# Altium schematic symbol library kmilo17pet-LT_ChargePump.SchLib: 599 symbols (part 27 of 29)
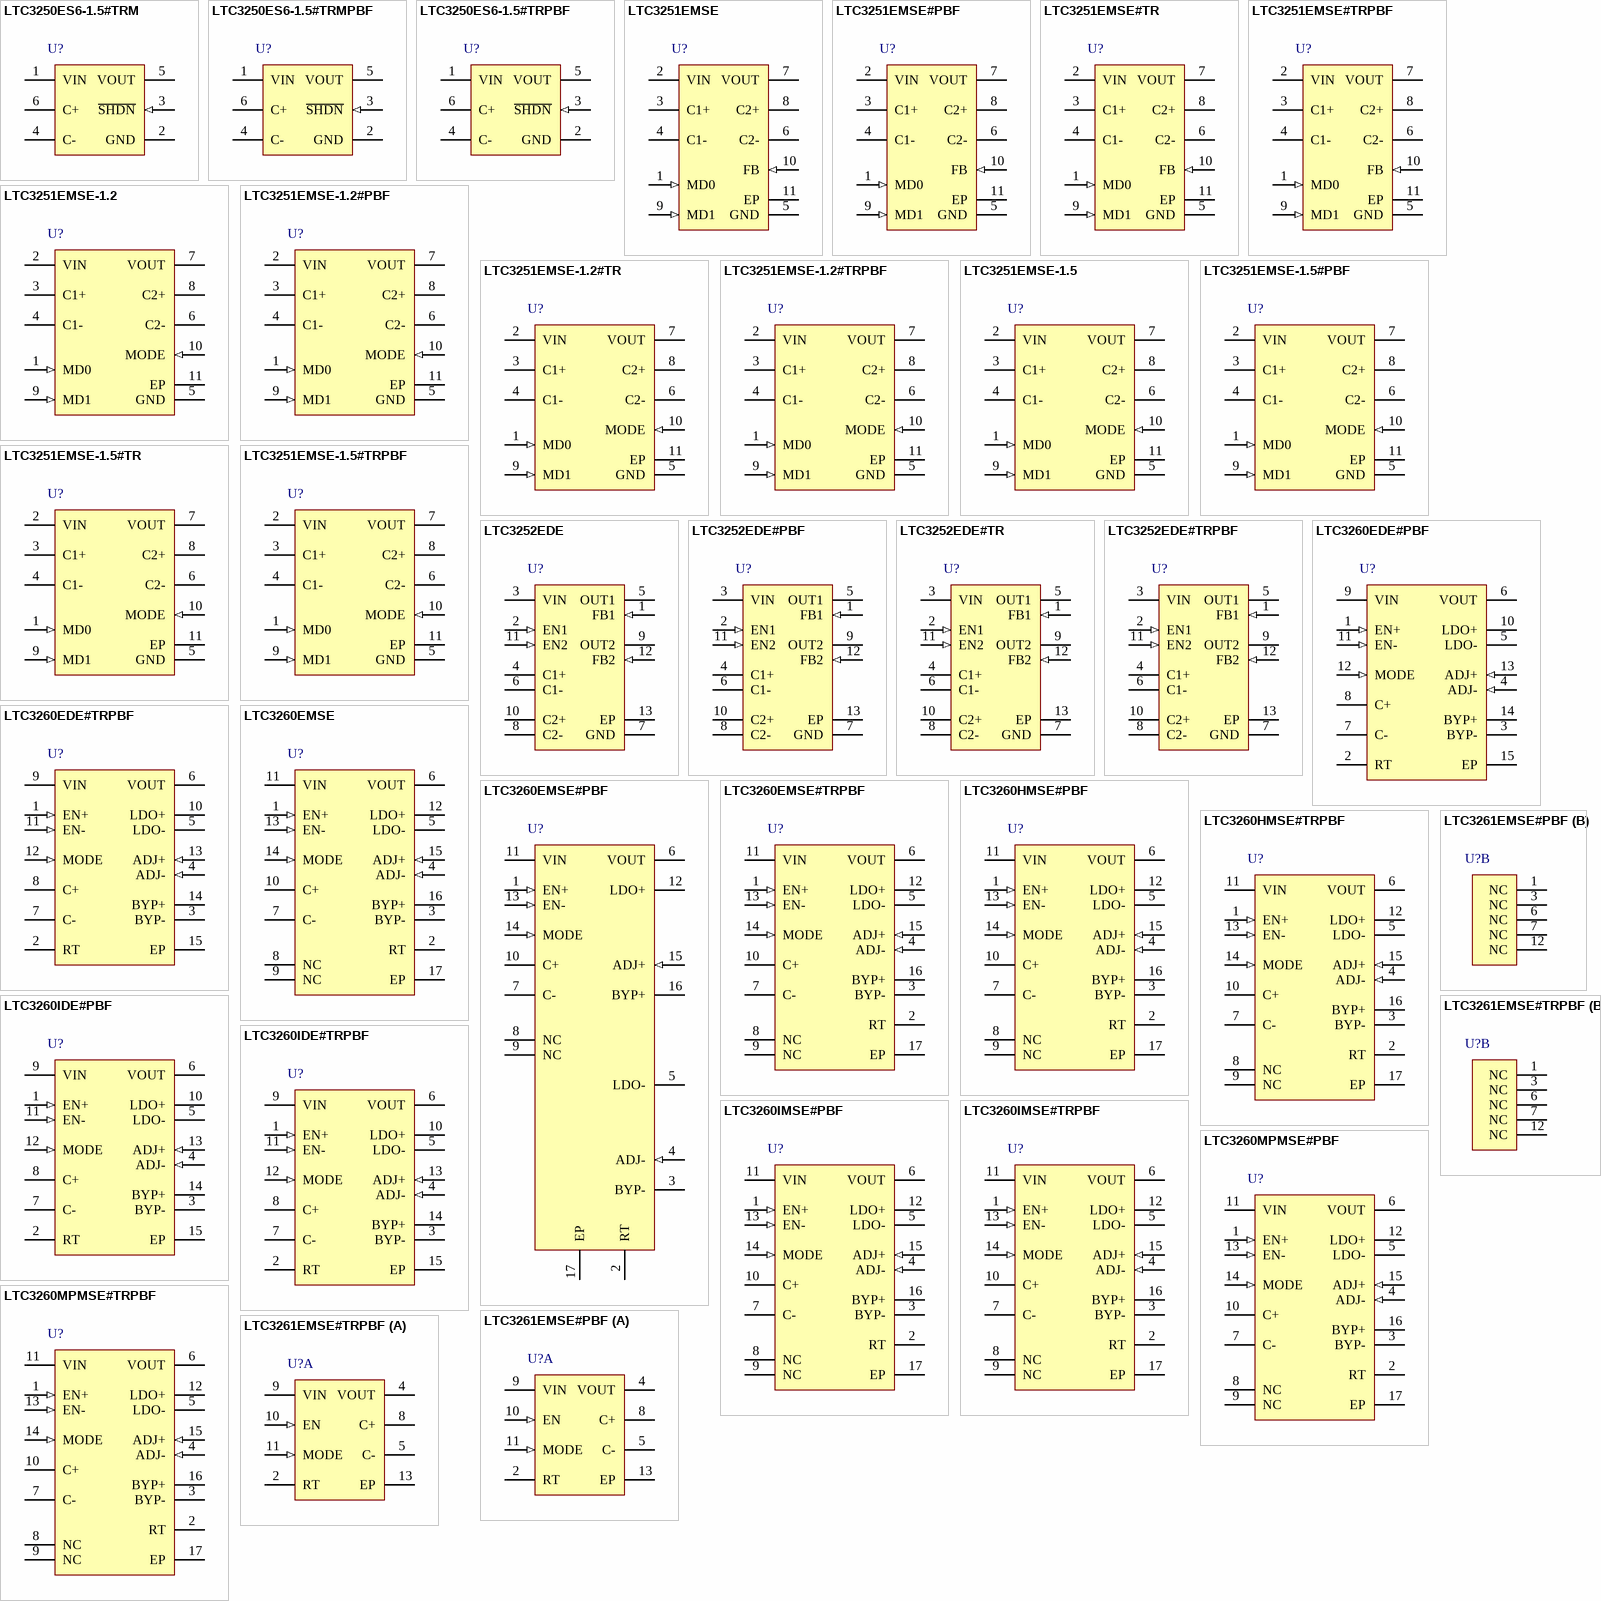
[diagram p42: symbols LTC3250ES6-1.5#TRM to LTC3261EMSE#TRPBF]

## LTC3251EMSE-1.2
designator U?
500 mA High Efficiency, Low Noise, Inductorless Step-Down DC/DC Converter, 2.7 to 5.5 V Vin, 1.2 V Vout, 10-pin SOP (MSE-10-EDP), -40 to 85 degC; Manufacturer: Linear Technology; PartNumber: LTC3251EMSE-1.2; Frequency(kHz): 1600; Ishutdown(uA): 0.01; Vin Max(V): 5.5; Vin Min(V): 2.7; Voutput: 1.2V; DatasheetVersion: Rev. B; PackageVersion: Rev. C, 08/2009; PackageReference: MSE-10; PackageDescription: 10-Pin Plastic MSOP, Exposed Die Pad, Body 3 x 3 mm, Pitch 0.5 mm; Supplier 1: Digi-Key; Supplier Part Number 1: LTC3251EMSE-1.2-ND; Isupply(mA): 0.01; RoHS: FALSE; Mounting Technology: Surface Mount; ComponentLink1Description: Manufacturer URL; ComponentLink1URL: http://www.linear.com/; ComponentLink2Description: Datasheet; ComponentLink2URL: http://cds.linear.com/docs/en/datasheet/32511215fb.pdf; ComponentLink3Description: Package Specification; ComponentLink3URL: http://cds.linear.com/docs/en/datasheet/3481fc.pdf
footprint LT-MSE-10-EDP-2060x1830TP_N (SOP, 10-Leads, Body 3.1x3.1mm, Pitch 0.5mm, Thermal Pad 2.17x1.94mm, IPC Medium Density)
footprint LT-MSE-10-EDP-2060x1830TP_L (SOP, 10-Leads, Body 3.1x3.1mm, Pitch 0.5mm, Thermal Pad 2.17x1.94mm, IPC High Density)
footprint LT-MSE-10-EDP-2060x1830TP_M (SOP, 10-Leads, Body 3.1x3.1mm, Pitch 0.5mm, Thermal Pad 2.17x1.94mm, IPC Low Density)
pins: 1 MD0 (in) "Switching Mode Input Pins. The Mode input pins are used to set the operating mode of the LTC3251-1.2/LTC3251-1.5.", 2 VIN (power) "Input Supply Voltage. Operating VIN may be between 2.7V and 5.5V. Bypass VIN with a >=1uF low ESR ceramic capacitor to GND (COUT).", 3 C1+ "Flying Capacitor 1 Positive Terminal (C1).", 4 C1- "Flying Capacitor 1 Negative Terminal (C1).", 5 GND (power) "Ground. Connect to a ground plane for best performance.", 6 C2- "Flying Capacitor 2 Negative Terminal (C2).", 7 VOUT (power) "Regulated Output Voltage. VOUT is disconnected from VIN during shutdown. Bypass VOUT with a low ESR ceramic capacitor to GND (CIN). See VOUT Capacitor Selection for capacitor size requirements.", 8 C2+ "Flying Capacitor 2 Positive Terminal (C2).", 9 MD1 (in) "Switching Mode Input Pins. The Mode input pins are used to set the operating mode of the LTC3251-1.2/LTC3251-1.5.", 10 MODE (in) "Spread Spectrum Operation Mode Pin. A low voltage on MODE enables spread spectrum operation. When MODE is high spread spectrum operation is disabled and switching occurs at the maximum operating frequency.", 11 EP (power)

## LTC3251EMSE-1.2#PBF
designator U?
500 mA High Efficiency, Low Noise, Inductorless Step-Down DC/DC Converter, 2.7 to 5.5 V Vin, 1.2 V Vout, 10-pin SOP (MSE-10-EDP), -40 to 85 degC, Pb-Free; Manufacturer: Linear Technology; PartNumber: LTC3251EMSE-1.2#PBF; Frequency(kHz): 1600; Ishutdown(uA): 0.01; Vin Max(V): 5.5; Vin Min(V): 2.7; Voutput: 1.2V; DatasheetVersion: Rev. B; PackageVersion: Rev. C, 08/2009; PackageReference: MSE-10; PackageDescription: 10-Pin Plastic MSOP, Exposed Die Pad, Body 3 x 3 mm, Pitch 0.5 mm; Supplier 1: Digi-Key; Supplier Part Number 1: LTC3251EMSE-1.2#PBF-ND; Supplier 2: Newark; Supplier Part Number 2: 56M7468; Isupply(mA): 0.01; RoHS: TRUE; Mounting Technology: Surface Mount; ComponentLink1Description: Manufacturer URL; ComponentLink1URL: http://www.linear.com/; ComponentLink2Description: Datasheet; ComponentLink2URL: http://cds.linear.com/docs/en/datasheet/32511215fb.pdf; ComponentLink3Description: Package Specification; ComponentLink3URL: http://cds.linear.com/docs/en/datasheet/3481fc.pdf
footprint LT-MSE-10-EDP-2060x1830TP_N (SOP, 10-Leads, Body 3.1x3.1mm, Pitch 0.5mm, Thermal Pad 2.17x1.94mm, IPC Medium Density)
footprint LT-MSE-10-EDP-2060x1830TP_L (SOP, 10-Leads, Body 3.1x3.1mm, Pitch 0.5mm, Thermal Pad 2.17x1.94mm, IPC High Density)
footprint LT-MSE-10-EDP-2060x1830TP_M (SOP, 10-Leads, Body 3.1x3.1mm, Pitch 0.5mm, Thermal Pad 2.17x1.94mm, IPC Low Density)
pins: 1 MD0 (in) "Switching Mode Input Pins. The Mode input pins are used to set the operating mode of the LTC3251-1.2/LTC3251-1.5.", 2 VIN (power) "Input Supply Voltage. Operating VIN may be between 2.7V and 5.5V. Bypass VIN with a >=1uF low ESR ceramic capacitor to GND (COUT).", 3 C1+ "Flying Capacitor 1 Positive Terminal (C1).", 4 C1- "Flying Capacitor 1 Negative Terminal (C1).", 5 GND (power) "Ground. Connect to a ground plane for best performance.", 6 C2- "Flying Capacitor 2 Negative Terminal (C2).", 7 VOUT (power) "Regulated Output Voltage. VOUT is disconnected from VIN during shutdown. Bypass VOUT with a low ESR ceramic capacitor to GND (CIN). See VOUT Capacitor Selection for capacitor size requirements.", 8 C2+ "Flying Capacitor 2 Positive Terminal (C2).", 9 MD1 (in) "Switching Mode Input Pins. The Mode input pins are used to set the operating mode of the LTC3251-1.2/LTC3251-1.5.", 10 MODE (in) "Spread Spectrum Operation Mode Pin. A low voltage on MODE enables spread spectrum operation. When MODE is high spread spectrum operation is disabled and switching occurs at the maximum operating frequency.", 11 EP (power)

## LTC3251EMSE-1.2#TR
designator U?
500 mA High Efficiency, Low Noise, Inductorless Step-Down DC/DC Converter, 2.7 to 5.5 V Vin, 1.2 V Vout, 10-pin SOP (MSE-10-EDP), -40 to 85 degC, Tape and Reel; Manufacturer: Linear Technology; PartNumber: LTC3251EMSE-1.2#TR; Frequency(kHz): 1600; Ishutdown(uA): 0.01; Vin Max(V): 5.5; Vin Min(V): 2.7; Voutput: 1.2V; DatasheetVersion: Rev. B; PackageVersion: Rev. C, 08/2009; PackageReference: MSE-10; PackageDescription: 10-Pin Plastic MSOP, Exposed Die Pad, Body 3 x 3 mm, Pitch 0.5 mm; Supplier 1: Digi-Key; Supplier Part Number 1: LTC3251EMSE-1.2TR-ND; Supplier 2: Newark; Supplier Part Number 2: 56M7469; Isupply(mA): 0.01; Packing: Tape and Reel; RoHS: FALSE; Mounting Technology: Surface Mount; ComponentLink1Description: Manufacturer URL; ComponentLink1URL: http://www.linear.com/; ComponentLink2Description: Datasheet; ComponentLink2URL: http://cds.linear.com/docs/en/datasheet/32511215fb.pdf; ComponentLink3Description: Package Specification; ComponentLink3URL: http://cds.linear.com/docs/en/datasheet/3481fc.pdf
footprint LT-MSE-10-EDP-2060x1830TP_N (SOP, 10-Leads, Body 3.1x3.1mm, Pitch 0.5mm, Thermal Pad 2.17x1.94mm, IPC Medium Density)
footprint LT-MSE-10-EDP-2060x1830TP_L (SOP, 10-Leads, Body 3.1x3.1mm, Pitch 0.5mm, Thermal Pad 2.17x1.94mm, IPC High Density)
footprint LT-MSE-10-EDP-2060x1830TP_M (SOP, 10-Leads, Body 3.1x3.1mm, Pitch 0.5mm, Thermal Pad 2.17x1.94mm, IPC Low Density)
pins: 1 MD0 (in) "Switching Mode Input Pins. The Mode input pins are used to set the operating mode of the LTC3251-1.2/LTC3251-1.5.", 2 VIN (power) "Input Supply Voltage. Operating VIN may be between 2.7V and 5.5V. Bypass VIN with a >=1uF low ESR ceramic capacitor to GND (COUT).", 3 C1+ "Flying Capacitor 1 Positive Terminal (C1).", 4 C1- "Flying Capacitor 1 Negative Terminal (C1).", 5 GND (power) "Ground. Connect to a ground plane for best performance.", 6 C2- "Flying Capacitor 2 Negative Terminal (C2).", 7 VOUT (power) "Regulated Output Voltage. VOUT is disconnected from VIN during shutdown. Bypass VOUT with a low ESR ceramic capacitor to GND (CIN). See VOUT Capacitor Selection for capacitor size requirements.", 8 C2+ "Flying Capacitor 2 Positive Terminal (C2).", 9 MD1 (in) "Switching Mode Input Pins. The Mode input pins are used to set the operating mode of the LTC3251-1.2/LTC3251-1.5.", 10 MODE (in) "Spread Spectrum Operation Mode Pin. A low voltage on MODE enables spread spectrum operation. When MODE is high spread spectrum operation is disabled and switching occurs at the maximum operating frequency.", 11 EP (power)

## LTC3251EMSE-1.2#TRPBF
designator U?
500 mA High Efficiency, Low Noise, Inductorless Step-Down DC/DC Converter, 2.7 to 5.5 V Vin, 1.2 V Vout, 10-pin SOP (MSE-10-EDP), -40 to 85 degC, Pb-Free, Tape and Reel; Manufacturer: Linear Technology; PartNumber: LTC3251EMSE-1.2#TRPBF; Frequency(kHz): 1600; Ishutdown(uA): 0.01; Vin Max(V): 5.5; Vin Min(V): 2.7; Voutput: 1.2V; DatasheetVersion: Rev. B; PackageVersion: Rev. C, 08/2009; PackageReference: MSE-10; PackageDescription: 10-Pin Plastic MSOP, Exposed Die Pad, Body 3 x 3 mm, Pitch 0.5 mm; Supplier 1: Digi-Key; Supplier Part Number 1: LTC3251EMSE-1.2#TRPBF-ND; Isupply(mA): 0.01; Packing: Tape and Reel; RoHS: TRUE; Mounting Technology: Surface Mount; ComponentLink1Description: Manufacturer URL; ComponentLink1URL: http://www.linear.com/; ComponentLink2Description: Datasheet; ComponentLink2URL: http://cds.linear.com/docs/en/datasheet/32511215fb.pdf; ComponentLink3Description: Package Specification; ComponentLink3URL: http://cds.linear.com/docs/en/datasheet/3481fc.pdf
footprint LT-MSE-10-EDP-2060x1830TP_N (SOP, 10-Leads, Body 3.1x3.1mm, Pitch 0.5mm, Thermal Pad 2.17x1.94mm, IPC Medium Density)
footprint LT-MSE-10-EDP-2060x1830TP_L (SOP, 10-Leads, Body 3.1x3.1mm, Pitch 0.5mm, Thermal Pad 2.17x1.94mm, IPC High Density)
footprint LT-MSE-10-EDP-2060x1830TP_M (SOP, 10-Leads, Body 3.1x3.1mm, Pitch 0.5mm, Thermal Pad 2.17x1.94mm, IPC Low Density)
pins: 1 MD0 (in) "Switching Mode Input Pins. The Mode input pins are used to set the operating mode of the LTC3251-1.2/LTC3251-1.5.", 2 VIN (power) "Input Supply Voltage. Operating VIN may be between 2.7V and 5.5V. Bypass VIN with a >=1uF low ESR ceramic capacitor to GND (COUT).", 3 C1+ "Flying Capacitor 1 Positive Terminal (C1).", 4 C1- "Flying Capacitor 1 Negative Terminal (C1).", 5 GND (power) "Ground. Connect to a ground plane for best performance.", 6 C2- "Flying Capacitor 2 Negative Terminal (C2).", 7 VOUT (power) "Regulated Output Voltage. VOUT is disconnected from VIN during shutdown. Bypass VOUT with a low ESR ceramic capacitor to GND (CIN). See VOUT Capacitor Selection for capacitor size requirements.", 8 C2+ "Flying Capacitor 2 Positive Terminal (C2).", 9 MD1 (in) "Switching Mode Input Pins. The Mode input pins are used to set the operating mode of the LTC3251-1.2/LTC3251-1.5.", 10 MODE (in) "Spread Spectrum Operation Mode Pin. A low voltage on MODE enables spread spectrum operation. When MODE is high spread spectrum operation is disabled and switching occurs at the maximum operating frequency.", 11 EP (power)

## LTC3251EMSE-1.5
designator U?
500 mA High Efficiency, Low Noise, Inductorless Step-Down DC/DC Converter, 2.7 to 5.5 V Vin, 1.5 V Vout, 10-pin SOP (MSE-10-EDP), -40 to 85 degC; Manufacturer: Linear Technology; PartNumber: LTC3251EMSE-1.5; Frequency(kHz): 1600; Ishutdown(uA): 0.01; Vin Max(V): 5.5; Vin Min(V): 2.7; Voutput: 1.5V; DatasheetVersion: Rev. B; PackageVersion: Rev. C, 08/2009; PackageReference: MSE-10; PackageDescription: 10-Pin Plastic MSOP, Exposed Die Pad, Body 3 x 3 mm, Pitch 0.5 mm; Supplier 1: Digi-Key; Supplier Part Number 1: LTC3251EMSE-1.5-ND; Isupply(mA): 0.01; RoHS: FALSE; Mounting Technology: Surface Mount; ComponentLink1Description: Manufacturer URL; ComponentLink1URL: http://www.linear.com/; ComponentLink2Description: Datasheet; ComponentLink2URL: http://cds.linear.com/docs/en/datasheet/32511215fb.pdf; ComponentLink3Description: Package Specification; ComponentLink3URL: http://cds.linear.com/docs/en/datasheet/3481fc.pdf
footprint LT-MSE-10-EDP-2060x1830TP_N (SOP, 10-Leads, Body 3.1x3.1mm, Pitch 0.5mm, Thermal Pad 2.17x1.94mm, IPC Medium Density)
footprint LT-MSE-10-EDP-2060x1830TP_L (SOP, 10-Leads, Body 3.1x3.1mm, Pitch 0.5mm, Thermal Pad 2.17x1.94mm, IPC High Density)
footprint LT-MSE-10-EDP-2060x1830TP_M (SOP, 10-Leads, Body 3.1x3.1mm, Pitch 0.5mm, Thermal Pad 2.17x1.94mm, IPC Low Density)
pins: 1 MD0 (in) "Switching Mode Input Pins. The Mode input pins are used to set the operating mode of the LTC3251-1.2/LTC3251-1.5.", 2 VIN (power) "Input Supply Voltage. Operating VIN may be between 2.7V and 5.5V. Bypass VIN with a >=1uF low ESR ceramic capacitor to GND (COUT).", 3 C1+ "Flying Capacitor 1 Positive Terminal (C1).", 4 C1- "Flying Capacitor 1 Negative Terminal (C1).", 5 GND (power) "Ground. Connect to a ground plane for best performance.", 6 C2- "Flying Capacitor 2 Negative Terminal (C2).", 7 VOUT (power) "Regulated Output Voltage. VOUT is disconnected from VIN during shutdown. Bypass VOUT with a low ESR ceramic capacitor to GND (CIN). See VOUT Capacitor Selection for capacitor size requirements.", 8 C2+ "Flying Capacitor 2 Positive Terminal (C2).", 9 MD1 (in) "Switching Mode Input Pins. The Mode input pins are used to set the operating mode of the LTC3251-1.2/LTC3251-1.5.", 10 MODE (in) "Spread Spectrum Operation Mode Pin. A low voltage on MODE enables spread spectrum operation. When MODE is high spread spectrum operation is disabled and switching occurs at the maximum operating frequency.", 11 EP (power)

## LTC3251EMSE-1.5#PBF
designator U?
500 mA High Efficiency, Low Noise, Inductorless Step-Down DC/DC Converter, 2.7 to 5.5 V Vin, 1.5 V Vout, 10-pin SOP (MSE-10-EDP), -40 to 85 degC, Pb-Free; Manufacturer: Linear Technology; PartNumber: LTC3251EMSE-1.5#PBF; Frequency(kHz): 1600; Ishutdown(uA): 0.01; Vin Max(V): 5.5; Vin Min(V): 2.7; Voutput: 1.5V; DatasheetVersion: Rev. B; PackageVersion: Rev. C, 08/2009; PackageReference: MSE-10; PackageDescription: 10-Pin Plastic MSOP, Exposed Die Pad, Body 3 x 3 mm, Pitch 0.5 mm; Supplier 1: Digi-Key; Supplier Part Number 1: LTC3251EMSE-1.5#PBF-ND; Supplier 2: Newark; Supplier Part Number 2: 56M7472; Isupply(mA): 0.01; RoHS: TRUE; Mounting Technology: Surface Mount; ComponentLink1Description: Manufacturer URL; ComponentLink1URL: http://www.linear.com/; ComponentLink2Description: Datasheet; ComponentLink2URL: http://cds.linear.com/docs/en/datasheet/32511215fb.pdf; ComponentLink3Description: Package Specification; ComponentLink3URL: http://cds.linear.com/docs/en/datasheet/3481fc.pdf
footprint LT-MSE-10-EDP-2060x1830TP_N (SOP, 10-Leads, Body 3.1x3.1mm, Pitch 0.5mm, Thermal Pad 2.17x1.94mm, IPC Medium Density)
footprint LT-MSE-10-EDP-2060x1830TP_L (SOP, 10-Leads, Body 3.1x3.1mm, Pitch 0.5mm, Thermal Pad 2.17x1.94mm, IPC High Density)
footprint LT-MSE-10-EDP-2060x1830TP_M (SOP, 10-Leads, Body 3.1x3.1mm, Pitch 0.5mm, Thermal Pad 2.17x1.94mm, IPC Low Density)
pins: 1 MD0 (in) "Switching Mode Input Pins. The Mode input pins are used to set the operating mode of the LTC3251-1.2/LTC3251-1.5.", 2 VIN (power) "Input Supply Voltage. Operating VIN may be between 2.7V and 5.5V. Bypass VIN with a >=1uF low ESR ceramic capacitor to GND (COUT).", 3 C1+ "Flying Capacitor 1 Positive Terminal (C1).", 4 C1- "Flying Capacitor 1 Negative Terminal (C1).", 5 GND (power) "Ground. Connect to a ground plane for best performance.", 6 C2- "Flying Capacitor 2 Negative Terminal (C2).", 7 VOUT (power) "Regulated Output Voltage. VOUT is disconnected from VIN during shutdown. Bypass VOUT with a low ESR ceramic capacitor to GND (CIN). See VOUT Capacitor Selection for capacitor size requirements.", 8 C2+ "Flying Capacitor 2 Positive Terminal (C2).", 9 MD1 (in) "Switching Mode Input Pins. The Mode input pins are used to set the operating mode of the LTC3251-1.2/LTC3251-1.5.", 10 MODE (in) "Spread Spectrum Operation Mode Pin. A low voltage on MODE enables spread spectrum operation. When MODE is high spread spectrum operation is disabled and switching occurs at the maximum operating frequency.", 11 EP (power)

## LTC3251EMSE-1.5#TR
designator U?
500 mA High Efficiency, Low Noise, Inductorless Step-Down DC/DC Converter, 2.7 to 5.5 V Vin, 1.5 V Vout, 10-pin SOP (MSE-10-EDP), -40 to 85 degC, Tape and Reel; Manufacturer: Linear Technology; PartNumber: LTC3251EMSE-1.5#TR; Frequency(kHz): 1600; Ishutdown(uA): 0.01; Vin Max(V): 5.5; Vin Min(V): 2.7; Voutput: 1.5V; DatasheetVersion: Rev. B; PackageVersion: Rev. C, 08/2009; PackageReference: MSE-10; PackageDescription: 10-Pin Plastic MSOP, Exposed Die Pad, Body 3 x 3 mm, Pitch 0.5 mm; Supplier 1: Digi-Key; Supplier Part Number 1: LTC3251EMSE-1.5TR-ND; Isupply(mA): 0.01; Packing: Tape and Reel; RoHS: FALSE; Mounting Technology: Surface Mount; ComponentLink1Description: Manufacturer URL; ComponentLink1URL: http://www.linear.com/; ComponentLink2Description: Datasheet; ComponentLink2URL: http://cds.linear.com/docs/en/datasheet/32511215fb.pdf; ComponentLink3Description: Package Specification; ComponentLink3URL: http://cds.linear.com/docs/en/datasheet/3481fc.pdf
footprint LT-MSE-10-EDP-2060x1830TP_N (SOP, 10-Leads, Body 3.1x3.1mm, Pitch 0.5mm, Thermal Pad 2.17x1.94mm, IPC Medium Density)
footprint LT-MSE-10-EDP-2060x1830TP_L (SOP, 10-Leads, Body 3.1x3.1mm, Pitch 0.5mm, Thermal Pad 2.17x1.94mm, IPC High Density)
footprint LT-MSE-10-EDP-2060x1830TP_M (SOP, 10-Leads, Body 3.1x3.1mm, Pitch 0.5mm, Thermal Pad 2.17x1.94mm, IPC Low Density)
pins: 1 MD0 (in) "Switching Mode Input Pins. The Mode input pins are used to set the operating mode of the LTC3251-1.2/LTC3251-1.5.", 2 VIN (power) "Input Supply Voltage. Operating VIN may be between 2.7V and 5.5V. Bypass VIN with a >=1uF low ESR ceramic capacitor to GND (COUT).", 3 C1+ "Flying Capacitor 1 Positive Terminal (C1).", 4 C1- "Flying Capacitor 1 Negative Terminal (C1).", 5 GND (power) "Ground. Connect to a ground plane for best performance.", 6 C2- "Flying Capacitor 2 Negative Terminal (C2).", 7 VOUT (power) "Regulated Output Voltage. VOUT is disconnected from VIN during shutdown. Bypass VOUT with a low ESR ceramic capacitor to GND (CIN). See VOUT Capacitor Selection for capacitor size requirements.", 8 C2+ "Flying Capacitor 2 Positive Terminal (C2).", 9 MD1 (in) "Switching Mode Input Pins. The Mode input pins are used to set the operating mode of the LTC3251-1.2/LTC3251-1.5.", 10 MODE (in) "Spread Spectrum Operation Mode Pin. A low voltage on MODE enables spread spectrum operation. When MODE is high spread spectrum operation is disabled and switching occurs at the maximum operating frequency.", 11 EP (power)

## LTC3251EMSE-1.5#TRPBF
designator U?
500 mA High Efficiency, Low Noise, Inductorless Step-Down DC/DC Converter, 2.7 to 5.5 V Vin, 1.5 V Vout, 10-pin SOP (MSE-10-EDP), -40 to 85 degC, Pb-Free, Tape and Reel; Manufacturer: Linear Technology; PartNumber: LTC3251EMSE-1.5#TRPBF; Frequency(kHz): 1600; Ishutdown(uA): 0.01; Vin Max(V): 5.5; Vin Min(V): 2.7; Voutput: 1.5V; DatasheetVersion: Rev. B; PackageVersion: Rev. C, 08/2009; PackageReference: MSE-10; PackageDescription: 10-Pin Plastic MSOP, Exposed Die Pad, Body 3 x 3 mm, Pitch 0.5 mm; Supplier 1: Digi-Key; Supplier Part Number 1: LTC3251EMSE-1.5#TRPBF-ND; Isupply(mA): 0.01; Packing: Tape and Reel; RoHS: TRUE; Mounting Technology: Surface Mount; ComponentLink1Description: Manufacturer URL; ComponentLink1URL: http://www.linear.com/; ComponentLink2Description: Datasheet; ComponentLink2URL: http://cds.linear.com/docs/en/datasheet/32511215fb.pdf; ComponentLink3Description: Package Specification; ComponentLink3URL: http://cds.linear.com/docs/en/datasheet/3481fc.pdf
footprint LT-MSE-10-EDP-2060x1830TP_N (SOP, 10-Leads, Body 3.1x3.1mm, Pitch 0.5mm, Thermal Pad 2.17x1.94mm, IPC Medium Density)
footprint LT-MSE-10-EDP-2060x1830TP_L (SOP, 10-Leads, Body 3.1x3.1mm, Pitch 0.5mm, Thermal Pad 2.17x1.94mm, IPC High Density)
footprint LT-MSE-10-EDP-2060x1830TP_M (SOP, 10-Leads, Body 3.1x3.1mm, Pitch 0.5mm, Thermal Pad 2.17x1.94mm, IPC Low Density)
pins: 1 MD0 (in) "Switching Mode Input Pins. The Mode input pins are used to set the operating mode of the LTC3251-1.2/LTC3251-1.5.", 2 VIN (power) "Input Supply Voltage. Operating VIN may be between 2.7V and 5.5V. Bypass VIN with a >=1uF low ESR ceramic capacitor to GND (COUT).", 3 C1+ "Flying Capacitor 1 Positive Terminal (C1).", 4 C1- "Flying Capacitor 1 Negative Terminal (C1).", 5 GND (power) "Ground. Connect to a ground plane for best performance.", 6 C2- "Flying Capacitor 2 Negative Terminal (C2).", 7 VOUT (power) "Regulated Output Voltage. VOUT is disconnected from VIN during shutdown. Bypass VOUT with a low ESR ceramic capacitor to GND (CIN). See VOUT Capacitor Selection for capacitor size requirements.", 8 C2+ "Flying Capacitor 2 Positive Terminal (C2).", 9 MD1 (in) "Switching Mode Input Pins. The Mode input pins are used to set the operating mode of the LTC3251-1.2/LTC3251-1.5.", 10 MODE (in) "Spread Spectrum Operation Mode Pin. A low voltage on MODE enables spread spectrum operation. When MODE is high spread spectrum operation is disabled and switching occurs at the maximum operating frequency.", 11 EP (power)

## LTC3252EDE
designator U?
Dual, Low Noise, Inductorless Step-Down DC/DC Converter, 2.7 to 5.5 V Vin, Adjustable Vout, 12-pin SON (DE-UE-12), -40 to 85 degC; Manufacturer: Linear Technology; PartNumber: LTC3252EDE; Frequency(kHz): 1600; Ishutdown(uA): 0.01; Isupply(mA): 0.06; Max Iout(mA): 250; Vin Max(V): 5.5; Vin Min(V): 2.7; Voutput: Adj; PackageVersion: Rev. D, 06/2010; PackageReference: DE-UE-12; PackageDescription: 12-Pin Plastic DFN, Body 4 x 3 mm, Pitch 0.5 mm; Supplier 1: Digi-Key; Supplier Part Number 1: LTC3252EDE-ND; RoHS: FALSE; Mounting Technology: Surface Mount; Code_JEDEC: MO-229; ComponentLink1Description: Manufacturer URL; ComponentLink1URL: http://www.linear.com/; ComponentLink2Description: Datasheet; ComponentLink2URL: http://cds.linear.com/docs/en/datasheet/3252f.pdf; ComponentLink3Description: Package Specification; ComponentLink3URL: http://cds.linear.com/docs/en/packaging/DFN_12_05-08-1695.pdf
footprint LT-DE-UE-12_V (SON, 12-Leads, Body 4x3mm, Pitch 0.5mm, Thermal Pad 3.3x1.7mm)
pins: 1 FB1 (in) "Feedback Input Pin 1. An output divider should be connected from OUT1 to FB1 to program the output voltage", 2 EN1 (in) "Input Enable Pin 1. When EN1 is high, OUT1 is enabled. When EN1 is low OUT1 is shut down.", 3 VIN (power) "Input Supply Voltage. Operating VIN may be between 2.7V and 5.5V. Bypass VIN with a >= 4.7uF (1uF min) low ESR ceramic capacitor to GND (CIN).", 4 C1+ "Flying Capacitor 1 Positive Terminal (C1).", 5 OUT1 (power) "Regulated Output Voltage 1. OUT1 is disconnected from VIN when in shutdown. Bypass OUT1 with a low ESR ceramic capacitor to GND (CO1). See Output Capacitor Selection section for size requirements.", 6 C1- "Flying Capacitor 1 Negative Terminal (C1).", 7 GND (power) "Ground. Connect to a ground plane for best performance.", 8 C2- "Flying Capacitor 2 Negative Terminal (C2).", 9 OUT2 (power) "Regulated Output Voltage 2. OUT2 is disconnected from VIN when in shutdown. Bypass OUT2 with a low ESR ceramic capacitor to GND (CO2). See Output Capacitor Selection section for size requirements.", 10 C2+ "Flying Capacitor 2 Positive Terminal (C2).", 11 EN2 (in) "Input Enable Pin 2. When EN2 is high, OUT2 is enabled. When EN2 is low OUT2 is shut down.", 12 FB2 (in) "Feedback Input Pin 2. An output divider should be connected from OUT2 to FB2 to program the output voltage.", 13 EP (power) "EXPOSED PAD IS GROUND"

## LTC3252EDE#PBF
designator U?
Dual, Low Noise, Inductorless Step-Down DC/DC Converter, 2.7 to 5.5 V Vin, Adjustable Vout, 12-pin SON (DE-UE-12), -40 to 85 degC, Pb-Free; Manufacturer: Linear Technology; PartNumber: LTC3252EDE#PBF; Frequency(kHz): 1600; Ishutdown(uA): 0.01; Isupply(mA): 0.06; Max Iout(mA): 250; Vin Max(V): 5.5; Vin Min(V): 2.7; Voutput: Adj; PackageVersion: Rev. D, 06/2010; PackageReference: DE-UE-12; PackageDescription: 12-Pin Plastic DFN, Body 4 x 3 mm, Pitch 0.5 mm; Supplier 1: Digi-Key; Supplier Part Number 1: LTC3252EDE#PBF-ND; Supplier 2: Newark; Supplier Part Number 2: 56M7479; RoHS: TRUE; Mounting Technology: Surface Mount; Code_JEDEC: MO-229; ComponentLink1Description: Manufacturer URL; ComponentLink1URL: http://www.linear.com/; ComponentLink2Description: Datasheet; ComponentLink2URL: http://cds.linear.com/docs/en/datasheet/3252f.pdf; ComponentLink3Description: Package Specification; ComponentLink3URL: http://cds.linear.com/docs/en/packaging/DFN_12_05-08-1695.pdf
footprint LT-DE-UE-12_V (SON, 12-Leads, Body 4x3mm, Pitch 0.5mm, Thermal Pad 3.3x1.7mm)
pins: 1 FB1 (in) "Feedback Input Pin 1. An output divider should be connected from OUT1 to FB1 to program the output voltage", 2 EN1 (in) "Input Enable Pin 1. When EN1 is high, OUT1 is enabled. When EN1 is low OUT1 is shut down.", 3 VIN (power) "Input Supply Voltage. Operating VIN may be between 2.7V and 5.5V. Bypass VIN with a >= 4.7uF (1uF min) low ESR ceramic capacitor to GND (CIN).", 4 C1+ "Flying Capacitor 1 Positive Terminal (C1).", 5 OUT1 (power) "Regulated Output Voltage 1. OUT1 is disconnected from VIN when in shutdown. Bypass OUT1 with a low ESR ceramic capacitor to GND (CO1). See Output Capacitor Selection section for size requirements.", 6 C1- "Flying Capacitor 1 Negative Terminal (C1).", 7 GND (power) "Ground. Connect to a ground plane for best performance.", 8 C2- "Flying Capacitor 2 Negative Terminal (C2).", 9 OUT2 (power) "Regulated Output Voltage 2. OUT2 is disconnected from VIN when in shutdown. Bypass OUT2 with a low ESR ceramic capacitor to GND (CO2). See Output Capacitor Selection section for size requirements.", 10 C2+ "Flying Capacitor 2 Positive Terminal (C2).", 11 EN2 (in) "Input Enable Pin 2. When EN2 is high, OUT2 is enabled. When EN2 is low OUT2 is shut down.", 12 FB2 (in) "Feedback Input Pin 2. An output divider should be connected from OUT2 to FB2 to program the output voltage.", 13 EP (power) "EXPOSED PAD IS GROUND"

## LTC3252EDE#TR
designator U?
Dual, Low Noise, Inductorless Step-Down DC/DC Converter, 2.7 to 5.5 V Vin, Adjustable Vout, 12-pin SON (DE-UE-12), -40 to 85 degC, Tape and Reel; Manufacturer: Linear Technology; PartNumber: LTC3252EDE#TR; Frequency(kHz): 1600; Ishutdown(uA): 0.01; Isupply(mA): 0.06; Max Iout(mA): 250; Vin Max(V): 5.5; Vin Min(V): 2.7; Voutput: Adj; PackageVersion: Rev. D, 06/2010; PackageReference: DE-UE-12; PackageDescription: 12-Pin Plastic DFN, Body 4 x 3 mm, Pitch 0.5 mm; Supplier 1: Digi-Key; Supplier Part Number 1: LTC3252EDE#TR-ND; Packing: Tape and Reel; RoHS: FALSE; Mounting Technology: Surface Mount; Code_JEDEC: MO-229; ComponentLink1Description: Manufacturer URL; ComponentLink1URL: http://www.linear.com/; ComponentLink2Description: Datasheet; ComponentLink2URL: http://cds.linear.com/docs/en/datasheet/3252f.pdf; ComponentLink3Description: Package Specification; ComponentLink3URL: http://cds.linear.com/docs/en/packaging/DFN_12_05-08-1695.pdf
footprint LT-DE-UE-12_V (SON, 12-Leads, Body 4x3mm, Pitch 0.5mm, Thermal Pad 3.3x1.7mm)
pins: 1 FB1 (in) "Feedback Input Pin 1. An output divider should be connected from OUT1 to FB1 to program the output voltage", 2 EN1 (in) "Input Enable Pin 1. When EN1 is high, OUT1 is enabled. When EN1 is low OUT1 is shut down.", 3 VIN (power) "Input Supply Voltage. Operating VIN may be between 2.7V and 5.5V. Bypass VIN with a >= 4.7uF (1uF min) low ESR ceramic capacitor to GND (CIN).", 4 C1+ "Flying Capacitor 1 Positive Terminal (C1).", 5 OUT1 (power) "Regulated Output Voltage 1. OUT1 is disconnected from VIN when in shutdown. Bypass OUT1 with a low ESR ceramic capacitor to GND (CO1). See Output Capacitor Selection section for size requirements.", 6 C1- "Flying Capacitor 1 Negative Terminal (C1).", 7 GND (power) "Ground. Connect to a ground plane for best performance.", 8 C2- "Flying Capacitor 2 Negative Terminal (C2).", 9 OUT2 (power) "Regulated Output Voltage 2. OUT2 is disconnected from VIN when in shutdown. Bypass OUT2 with a low ESR ceramic capacitor to GND (CO2). See Output Capacitor Selection section for size requirements.", 10 C2+ "Flying Capacitor 2 Positive Terminal (C2).", 11 EN2 (in) "Input Enable Pin 2. When EN2 is high, OUT2 is enabled. When EN2 is low OUT2 is shut down.", 12 FB2 (in) "Feedback Input Pin 2. An output divider should be connected from OUT2 to FB2 to program the output voltage.", 13 EP (power) "EXPOSED PAD IS GROUND"

## LTC3252EDE#TRPBF
designator U?
Dual, Low Noise, Inductorless Step-Down DC/DC Converter, 2.7 to 5.5 V Vin, Adjustable Vout, 12-pin SON (DE-UE-12), -40 to 85 degC, Pb-Free, Tape and Reel; Manufacturer: Linear Technology; PartNumber: LTC3252EDE#TRPBF; Frequency(kHz): 1600; Ishutdown(uA): 0.01; Isupply(mA): 0.06; Max Iout(mA): 250; Vin Max(V): 5.5; Vin Min(V): 2.7; Voutput: Adj; PackageVersion: Rev. D, 06/2010; PackageReference: DE-UE-12; PackageDescription: 12-Pin Plastic DFN, Body 4 x 3 mm, Pitch 0.5 mm; Supplier 1: Digi-Key; Supplier Part Number 1: LTC3252EDE#TRPBF-ND; Packing: Tape and Reel; RoHS: TRUE; Mounting Technology: Surface Mount; Code_JEDEC: MO-229; ComponentLink1Description: Manufacturer URL; ComponentLink1URL: http://www.linear.com/; ComponentLink2Description: Datasheet; ComponentLink2URL: http://cds.linear.com/docs/en/datasheet/3252f.pdf; ComponentLink3Description: Package Specification; ComponentLink3URL: http://cds.linear.com/docs/en/packaging/DFN_12_05-08-1695.pdf
footprint LT-DE-UE-12_V (SON, 12-Leads, Body 4x3mm, Pitch 0.5mm, Thermal Pad 3.3x1.7mm)
pins: 1 FB1 (in) "Feedback Input Pin 1. An output divider should be connected from OUT1 to FB1 to program the output voltage", 2 EN1 (in) "Input Enable Pin 1. When EN1 is high, OUT1 is enabled. When EN1 is low OUT1 is shut down.", 3 VIN (power) "Input Supply Voltage. Operating VIN may be between 2.7V and 5.5V. Bypass VIN with a >= 4.7uF (1uF min) low ESR ceramic capacitor to GND (CIN).", 4 C1+ "Flying Capacitor 1 Positive Terminal (C1).", 5 OUT1 (power) "Regulated Output Voltage 1. OUT1 is disconnected from VIN when in shutdown. Bypass OUT1 with a low ESR ceramic capacitor to GND (CO1). See Output Capacitor Selection section for size requirements.", 6 C1- "Flying Capacitor 1 Negative Terminal (C1).", 7 GND (power) "Ground. Connect to a ground plane for best performance.", 8 C2- "Flying Capacitor 2 Negative Terminal (C2).", 9 OUT2 (power) "Regulated Output Voltage 2. OUT2 is disconnected from VIN when in shutdown. Bypass OUT2 with a low ESR ceramic capacitor to GND (CO2). See Output Capacitor Selection section for size requirements.", 10 C2+ "Flying Capacitor 2 Positive Terminal (C2).", 11 EN2 (in) "Input Enable Pin 2. When EN2 is high, OUT2 is enabled. When EN2 is low OUT2 is shut down.", 12 FB2 (in) "Feedback Input Pin 2. An output divider should be connected from OUT2 to FB2 to program the output voltage.", 13 EP (power) "EXPOSED PAD IS GROUND"

## LTC3260EDE#PBF
designator U?
Low Noise Dual Supply Inverting Charge Pump, 4.5 to 32 V Vin, Adjustable Vout, 14-pin SON (DE-14), -40 to 125 degC, Pb-Free; Manufacturer: Linear Technology; PartNumber: LTC3260EDE#PBF; Frequency(kHz): 500; Ishutdown(uA): 2; Isupply(mA): 0.1; Max Iout(mA): 100; Vin Max(V): 32; Vin Min(V): 4.5; Voutput: Adj; DatasheetVersion: Rev. A; PackageVersion: Rev. B, 06/2010; PackageReference: DE-14; PackageDescription: 14-Pin Plastic DFN, Body 4 x 3 mm, Pitch 0.5 mm; Supplier 1: Digi-Key; Supplier Part Number 1: LTC3260EDE#PBF-ND; Supplier 2: Farnell; Supplier Part Number 2: 2115837; RoHS: TRUE; Mounting Technology: Surface Mount; Code_JEDEC: MO-229; ComponentLink1Description: Manufacturer URL; ComponentLink1URL: http://www.linear.com/; ComponentLink2Description: Datasheet; ComponentLink2URL: http://cds.linear.com/docs/en/datasheet/3260fa.pdf; ComponentLink3Description: Package Specification; ComponentLink3URL: http://www.linear.com/docs/en/packaging/DFN_14_05-08-1708.pdf
footprint LT-DE-14_V (SON, 14-Leads, Body 4x3mm, Pitch 0.5mm, Thermal Pad 3.3x1.7mm)
pins: 1 EN+ (in) "Logic Input. A logic “high” on the EN+ pin enables the positive low dropout (LDO+) regulator.", 2 RT "Input Connection for Programming the Switching Frequency. The RT pin servos to a fixed 1.2V when the EN- pin is driven to a logic “high”. A resistor from RT to GND sets the charge pump switching frequency. If the RT (See Datasheet)", 3 BYP- "LDO- Reference Bypass Pin. Connect a capacitor from BYP- to GND to reduce LDO- output noise. Leave floating if unused.", 4 ADJ- (in) "Feedback Input for the Negative Low Dropout Regulator. This pin servos to a fixed voltage of -1.2V when the control loop is complete.", 5 LDO- (power) "Negative Low Dropout (LDO-) Linear Regulator Output. This pin requires a low ESR (equivalent series resistance) capacitor with at least 2uF capacitance to ground for stability.", 6 VOUT (power) "Charge Pump Output Voltage. In constant frequency mode (MODE = low) this pin is driven to -VIN. In Burst Mode operation, (MODE = high) this pin voltage is regulated to -0.94 • VIN using an internal burst comparator wit(See Datasheet)", 7 C- "Flying Capacitor Negative Connection.", 8 C+ "Flying Capacitor Positive Connection.", 9 VIN (power) "Input Voltage for Both Charge Pump and Positive Low Dropout (LDO+) Regulator. VIN should be bypassed with a low impedance ceramic capacitor", 10 LDO+ (power) "Positive Low Dropout (LDO+) Output. This pin requires a low ESR capacitor with at least 2uF capacitance to ground for stability.", 11 EN- (in) "Logic Input. A logic “high” on the EN- pin enables the inverting charge pump as well as the negative LDO regulator.", 12 MODE (in) "Logic Input. The MODE pin determines the charge pump operating mode. A logic “high” on the MODE pin forces the charge pump to operate in Burst Mode operation regulating VOUT to approximately -0.94 • VIN with hyste(See Datasheet)", 13 ADJ+ (in) "Feedback Input for the Positive Low Dropout (LDO+) Regulator. This pin servos to a fixed voltage of 1.2V when the control loop is complete.", 14 BYP+ "LDO+ Reference Bypass Pin. Connect a capacitor from BYP+ to GND to reduce LDO+ output noise. Leave floating if unused.", 15 EP (power) "Ground. The exposed package pad is ground and must be soldered to the PC board ground plane for proper functionality and for rated thermal performance."

## LTC3260EDE#TRPBF
designator U?
Low Noise Dual Supply Inverting Charge Pump, 4.5 to 32 V Vin, Adjustable Vout, 14-pin SON (DE-14), -40 to 125 degC, Pb-Free, Tape and Reel; Manufacturer: Linear Technology; PartNumber: LTC3260EDE#TRPBF; Frequency(kHz): 500; Ishutdown(uA): 2; Isupply(mA): 0.1; Max Iout(mA): 100; Vin Max(V): 32; Vin Min(V): 4.5; Voutput: Adj; DatasheetVersion: Rev. A; PackageVersion: Rev. B, 06/2010; PackageReference: DE-14; PackageDescription: 14-Pin Plastic DFN, Body 4 x 3 mm, Pitch 0.5 mm; Supplier 1: Digi-Key; Supplier Part Number 1: LTC3260EDE#TRPBF-ND; Packing: Tape and Reel; RoHS: TRUE; Mounting Technology: Surface Mount; Code_JEDEC: MO-229; ComponentLink1Description: Manufacturer URL; ComponentLink1URL: http://www.linear.com/; ComponentLink2Description: Datasheet; ComponentLink2URL: http://cds.linear.com/docs/en/datasheet/3260fa.pdf; ComponentLink3Description: Package Specification; ComponentLink3URL: http://www.linear.com/docs/en/packaging/DFN_14_05-08-1708.pdf
footprint LT-DE-14_V (SON, 14-Leads, Body 4x3mm, Pitch 0.5mm, Thermal Pad 3.3x1.7mm)
pins: 1 EN+ (in) "Logic Input. A logic “high” on the EN+ pin enables the positive low dropout (LDO+) regulator.", 2 RT "Input Connection for Programming the Switching Frequency. The RT pin servos to a fixed 1.2V when the EN- pin is driven to a logic “high”. A resistor from RT to GND sets the charge pump switching frequency. If the RT (See Datasheet)", 3 BYP- "LDO- Reference Bypass Pin. Connect a capacitor from BYP- to GND to reduce LDO- output noise. Leave floating if unused.", 4 ADJ- (in) "Feedback Input for the Negative Low Dropout Regulator. This pin servos to a fixed voltage of -1.2V when the control loop is complete.", 5 LDO- (power) "Negative Low Dropout (LDO-) Linear Regulator Output. This pin requires a low ESR (equivalent series resistance) capacitor with at least 2uF capacitance to ground for stability.", 6 VOUT (power) "Charge Pump Output Voltage. In constant frequency mode (MODE = low) this pin is driven to -VIN. In Burst Mode operation, (MODE = high) this pin voltage is regulated to -0.94 • VIN using an internal burst comparator wit(See Datasheet)", 7 C- "Flying Capacitor Negative Connection.", 8 C+ "Flying Capacitor Positive Connection.", 9 VIN (power) "Input Voltage for Both Charge Pump and Positive Low Dropout (LDO+) Regulator. VIN should be bypassed with a low impedance ceramic capacitor", 10 LDO+ (power) "Positive Low Dropout (LDO+) Output. This pin requires a low ESR capacitor with at least 2uF capacitance to ground for stability.", 11 EN- (in) "Logic Input. A logic “high” on the EN- pin enables the inverting charge pump as well as the negative LDO regulator.", 12 MODE (in) "Logic Input. The MODE pin determines the charge pump operating mode. A logic “high” on the MODE pin forces the charge pump to operate in Burst Mode operation regulating VOUT to approximately -0.94 • VIN with hyste(See Datasheet)", 13 ADJ+ (in) "Feedback Input for the Positive Low Dropout (LDO+) Regulator. This pin servos to a fixed voltage of 1.2V when the control loop is complete.", 14 BYP+ "LDO+ Reference Bypass Pin. Connect a capacitor from BYP+ to GND to reduce LDO+ output noise. Leave floating if unused.", 15 EP (power) "Ground. The exposed package pad is ground and must be soldered to the PC board ground plane for proper functionality and for rated thermal performance."

## LTC3260EMSE
designator U?
Low Noise Dual Supply Inverting Charge Pump, 4.5 to 32 V Vin, Adjustable Vout, 16-pin SOP (MSE-16-EDP), -40 to 125 degC; Manufacturer: Linear Technology; PartNumber: LTC3260EMSE; Frequency(kHz): 500; Ishutdown(uA): 2; Isupply(mA): 0.1; Max Iout(mA): 100; Vin Max(V): 32; Vin Min(V): 4.5; Voutput: Adj; DatasheetVersion: Rev. A; PackageVersion: Rev. F, 05/2013; PackageReference: MSE-16; PackageDescription: 16-Pin Plastic MSOP, Exposed Die Pad, Body 4.039 x 3 mm, Pitch 0.5 mm; RoHS: FALSE; Mounting Technology: Surface Mount; ComponentLink1Description: Manufacturer URL; ComponentLink1URL: http://www.linear.com/; ComponentLink2Description: Datasheet; ComponentLink2URL: http://cds.linear.com/docs/en/datasheet/3260fa.pdf; ComponentLink3Description: Package Specification; ComponentLink3URL: http://cds.linear.com/docs/en/packaging/05081667_F_MSE16.pdf
footprint LT-MSE-16-EDP_N (SOP, 16-Leads, Body 4.1x3.1mm, Pitch 0.5mm, Thermal Pad 2.95x1.76mm, IPC Medium Density)
footprint LT-MSE-16-EDP_L (SOP, 16-Leads, Body 4.1x3.1mm, Pitch 0.5mm, Thermal Pad 2.95x1.76mm, IPC High Density)
footprint LT-MSE-16-EDP_M (SOP, 16-Leads, Body 4.1x3.1mm, Pitch 0.5mm, Thermal Pad 2.95x1.76mm, IPC Low Density)
pins: 1 EN+ (in) "Logic Input. A logic “high” on the EN+ pin enables the positive low dropout (LDO+) regulator.", 2 RT "Input Connection for Programming the Switching Frequency. The RT pin servos to a fixed 1.2V when the EN- pin is driven to a logic “high”. A resistor from RT to GND sets the charge pump switching frequency. If the RT (See Datasheet)", 3 BYP- "LDO- Reference Bypass Pin. Connect a capacitor from BYP- to GND to reduce LDO- output noise. Leave floating if unused.", 4 ADJ- (in) "Feedback Input for the Negative Low Dropout Regulator. This pin servos to a fixed voltage of -1.2V when the control loop is complete.", 5 LDO- (power) "Negative Low Dropout (LDO-) Linear Regulator Output. This pin requires a low ESR (equivalent series resistance) capacitor with at least 2uF capacitance to ground for stability.", 6 VOUT (power) "Charge Pump Output Voltage. In constant frequency mode (MODE = low) this pin is driven to -VIN. In Burst Mode operation, (MODE = high) this pin voltage is regulated to -0.94 • VIN using an internal burst comparator wit(See Datasheet)", 7 C- "Flying Capacitor Negative Connection.", 8 NC "No Connect. These pins are not connected to the LTC3260 die. These pins should be left floating, connected to ground or shorted to adjacent pins.", 9 NC "No Connect. These pins are not connected to the LTC3260 die. These pins should be left floating, connected to ground or shorted to adjacent pins.", 10 C+ "Flying Capacitor Positive Connection.", 11 VIN (power) "Input Voltage for Both Charge Pump and Positive Low Dropout (LDO+) Regulator. VIN should be bypassed with a low impedance ceramic capacitor", 12 LDO+ (power) "Positive Low Dropout (LDO+) Output. This pin requires a low ESR capacitor with at least 2uF capacitance to ground for stability.", 13 EN- (in) "Logic Input. A logic “high” on the EN- pin enables the inverting charge pump as well as the negative LDO regulator.", 14 MODE (in) "Logic Input. The MODE pin determines the charge pump operating mode. A logic “high” on the MODE pin forces the charge pump to operate in Burst Mode operation regulating VOUT to approximately -0.94 • VIN with hyste(See Datasheet)", 15 ADJ+ (in) "Feedback Input for the Positive Low Dropout (LDO+) Regulator. This pin servos to a fixed voltage of 1.2V when the control loop is complete.", 16 BYP+ "LDO+ Reference Bypass Pin. Connect a capacitor from BYP+ to GND to reduce LDO+ output noise. Leave floating if unused.", 17 EP (power) "Ground. The exposed package pad is ground and must be soldered to the PC board ground plane for proper functionality and for rated thermal performance."

## LTC3260EMSE#PBF
designator U?
Low Noise Dual Supply Inverting Charge Pump, 4.5 to 32 V Vin, Adjustable Vout, 16-pin SOP (MSE-16-EDP), -40 to 125 degC, Pb-Free; Manufacturer: Linear Technology; PartNumber: LTC3260EMSE#PBF; Frequency(kHz): 500; Ishutdown(uA): 2; Isupply(mA): 0.1; Max Iout(mA): 100; Vin Max(V): 32; Vin Min(V): 4.5; Voutput: Adj; DatasheetVersion: Rev. A; PackageVersion: Rev. F, 05/2013; PackageReference: MSE-16; PackageDescription: 16-Pin Plastic MSOP, Exposed Die Pad, Body 4.039 x 3 mm, Pitch 0.5 mm; Supplier 1: Digi-Key; Supplier Part Number 1: LTC3260EMSE#PBF-ND; Supplier 2: Farnell; Supplier Part Number 2: 2115838; Supplier 3: Newark; Supplier Part Number 3: 94T1245; RoHS: TRUE; Mounting Technology: Surface Mount; ComponentLink1Description: Manufacturer URL; ComponentLink1URL: http://www.linear.com/; ComponentLink2Description: Datasheet; ComponentLink2URL: http://cds.linear.com/docs/en/datasheet/3260fa.pdf; ComponentLink3Description: Package Specification; ComponentLink3URL: http://cds.linear.com/docs/en/packaging/05081667_F_MSE16.pdf
footprint LT-MSE-16-EDP_N (SOP, 16-Leads, Body 4.1x3.1mm, Pitch 0.5mm, Thermal Pad 2.95x1.76mm, IPC Medium Density)
footprint LT-MSE-16-EDP_L (SOP, 16-Leads, Body 4.1x3.1mm, Pitch 0.5mm, Thermal Pad 2.95x1.76mm, IPC High Density)
footprint LT-MSE-16-EDP_M (SOP, 16-Leads, Body 4.1x3.1mm, Pitch 0.5mm, Thermal Pad 2.95x1.76mm, IPC Low Density)
pins: 1 EN+ (in) "Logic Input. A logic “high” on the EN+ pin enables the positive low dropout (LDO+) regulator.", 2 RT "Input Connection for Programming the Switching Frequency. The RT pin servos to a fixed 1.2V when the EN- pin is driven to a logic “high”. A resistor from RT to GND sets the charge pump switching frequency. If the RT (See Datasheet)", 3 BYP- "LDO- Reference Bypass Pin. Connect a capacitor from BYP- to GND to reduce LDO- output noise. Leave floating if unused.", 4 ADJ- (in) "Feedback Input for the Negative Low Dropout Regulator. This pin servos to a fixed voltage of -1.2V when the control loop is complete.", 5 LDO- (power) "Negative Low Dropout (LDO-) Linear Regulator Output. This pin requires a low ESR (equivalent series resistance) capacitor with at least 2uF capacitance to ground for stability.", 6 VOUT (power) "Charge Pump Output Voltage. In constant frequency mode (MODE = low) this pin is driven to -VIN. In Burst Mode operation, (MODE = high) this pin voltage is regulated to -0.94 • VIN using an internal burst comparator wit(See Datasheet)", 7 C- "Flying Capacitor Negative Connection.", 8 NC "No Connect. These pins are not connected to the LTC3260 die. These pins should be left floating, connected to ground or shorted to adjacent pins.", 9 NC "No Connect. These pins are not connected to the LTC3260 die. These pins should be left floating, connected to ground or shorted to adjacent pins.", 10 C+ "Flying Capacitor Positive Connection.", 11 VIN (power) "Input Voltage for Both Charge Pump and Positive Low Dropout (LDO+) Regulator. VIN should be bypassed with a low impedance ceramic capacitor", 12 LDO+ (power) "Positive Low Dropout (LDO+) Output. This pin requires a low ESR capacitor with at least 2uF capacitance to ground for stability.", 13 EN- (in) "Logic Input. A logic “high” on the EN- pin enables the inverting charge pump as well as the negative LDO regulator.", 14 MODE (in) "Logic Input. The MODE pin determines the charge pump operating mode. A logic “high” on the MODE pin forces the charge pump to operate in Burst Mode operation regulating VOUT to approximately -0.94 • VIN with hyste(See Datasheet)", 15 ADJ+ (in) "Feedback Input for the Positive Low Dropout (LDO+) Regulator. This pin servos to a fixed voltage of 1.2V when the control loop is complete.", 16 BYP+ "LDO+ Reference Bypass Pin. Connect a capacitor from BYP+ to GND to reduce LDO+ output noise. Leave floating if unused.", 17 EP (power) "Ground. The exposed package pad is ground and must be soldered to the PC board ground plane for proper functionality and for rated thermal performance."

## LTC3260EMSE#TRPBF
designator U?
Low Noise Dual Supply Inverting Charge Pump, 4.5 to 32 V Vin, Adjustable Vout, 16-pin SOP (MSE-16-EDP), -40 to 125 degC, Pb-Free, Tape and Reel; Manufacturer: Linear Technology; PartNumber: LTC3260EMSE#TRPBF; Frequency(kHz): 500; Ishutdown(uA): 2; Isupply(mA): 0.1; Max Iout(mA): 100; Vin Max(V): 32; Vin Min(V): 4.5; Voutput: Adj; DatasheetVersion: Rev. A; PackageVersion: Rev. F, 05/2013; PackageReference: MSE-16; PackageDescription: 16-Pin Plastic MSOP, Exposed Die Pad, Body 4.039 x 3 mm, Pitch 0.5 mm; Supplier 1: Digi-Key; Supplier Part Number 1: LTC3260EMSE#TRPBF-ND; Supplier 2: Newark; Supplier Part Number 2: 94T1246; Packing: Tape and Reel; RoHS: TRUE; Mounting Technology: Surface Mount; ComponentLink1Description: Manufacturer URL; ComponentLink1URL: http://www.linear.com/; ComponentLink2Description: Datasheet; ComponentLink2URL: http://cds.linear.com/docs/en/datasheet/3260fa.pdf; ComponentLink3Description: Package Specification; ComponentLink3URL: http://cds.linear.com/docs/en/packaging/05081667_F_MSE16.pdf
footprint LT-MSE-16-EDP_N (SOP, 16-Leads, Body 4.1x3.1mm, Pitch 0.5mm, Thermal Pad 2.95x1.76mm, IPC Medium Density)
footprint LT-MSE-16-EDP_L (SOP, 16-Leads, Body 4.1x3.1mm, Pitch 0.5mm, Thermal Pad 2.95x1.76mm, IPC High Density)
footprint LT-MSE-16-EDP_M (SOP, 16-Leads, Body 4.1x3.1mm, Pitch 0.5mm, Thermal Pad 2.95x1.76mm, IPC Low Density)
pins: 1 EN+ (in) "Logic Input. A logic “high” on the EN+ pin enables the positive low dropout (LDO+) regulator.", 2 RT "Input Connection for Programming the Switching Frequency. The RT pin servos to a fixed 1.2V when the EN- pin is driven to a logic “high”. A resistor from RT to GND sets the charge pump switching frequency. If the RT (See Datasheet)", 3 BYP- "LDO- Reference Bypass Pin. Connect a capacitor from BYP- to GND to reduce LDO- output noise. Leave floating if unused.", 4 ADJ- (in) "Feedback Input for the Negative Low Dropout Regulator. This pin servos to a fixed voltage of -1.2V when the control loop is complete.", 5 LDO- (power) "Negative Low Dropout (LDO-) Linear Regulator Output. This pin requires a low ESR (equivalent series resistance) capacitor with at least 2uF capacitance to ground for stability.", 6 VOUT (power) "Charge Pump Output Voltage. In constant frequency mode (MODE = low) this pin is driven to -VIN. In Burst Mode operation, (MODE = high) this pin voltage is regulated to -0.94 • VIN using an internal burst comparator wit(See Datasheet)", 7 C- "Flying Capacitor Negative Connection.", 8 NC "No Connect. These pins are not connected to the LTC3260 die. These pins should be left floating, connected to ground or shorted to adjacent pins.", 9 NC "No Connect. These pins are not connected to the LTC3260 die. These pins should be left floating, connected to ground or shorted to adjacent pins.", 10 C+ "Flying Capacitor Positive Connection.", 11 VIN (power) "Input Voltage for Both Charge Pump and Positive Low Dropout (LDO+) Regulator. VIN should be bypassed with a low impedance ceramic capacitor", 12 LDO+ (power) "Positive Low Dropout (LDO+) Output. This pin requires a low ESR capacitor with at least 2uF capacitance to ground for stability.", 13 EN- (in) "Logic Input. A logic “high” on the EN- pin enables the inverting charge pump as well as the negative LDO regulator.", 14 MODE (in) "Logic Input. The MODE pin determines the charge pump operating mode. A logic “high” on the MODE pin forces the charge pump to operate in Burst Mode operation regulating VOUT to approximately -0.94 • VIN with hyste(See Datasheet)", 15 ADJ+ (in) "Feedback Input for the Positive Low Dropout (LDO+) Regulator. This pin servos to a fixed voltage of 1.2V when the control loop is complete.", 16 BYP+ "LDO+ Reference Bypass Pin. Connect a capacitor from BYP+ to GND to reduce LDO+ output noise. Leave floating if unused.", 17 EP (power) "Ground. The exposed package pad is ground and must be soldered to the PC board ground plane for proper functionality and for rated thermal performance."